# Altium integrated library National Semiconductor ADC.IntLib: 538 symbols (part 3 of 19)
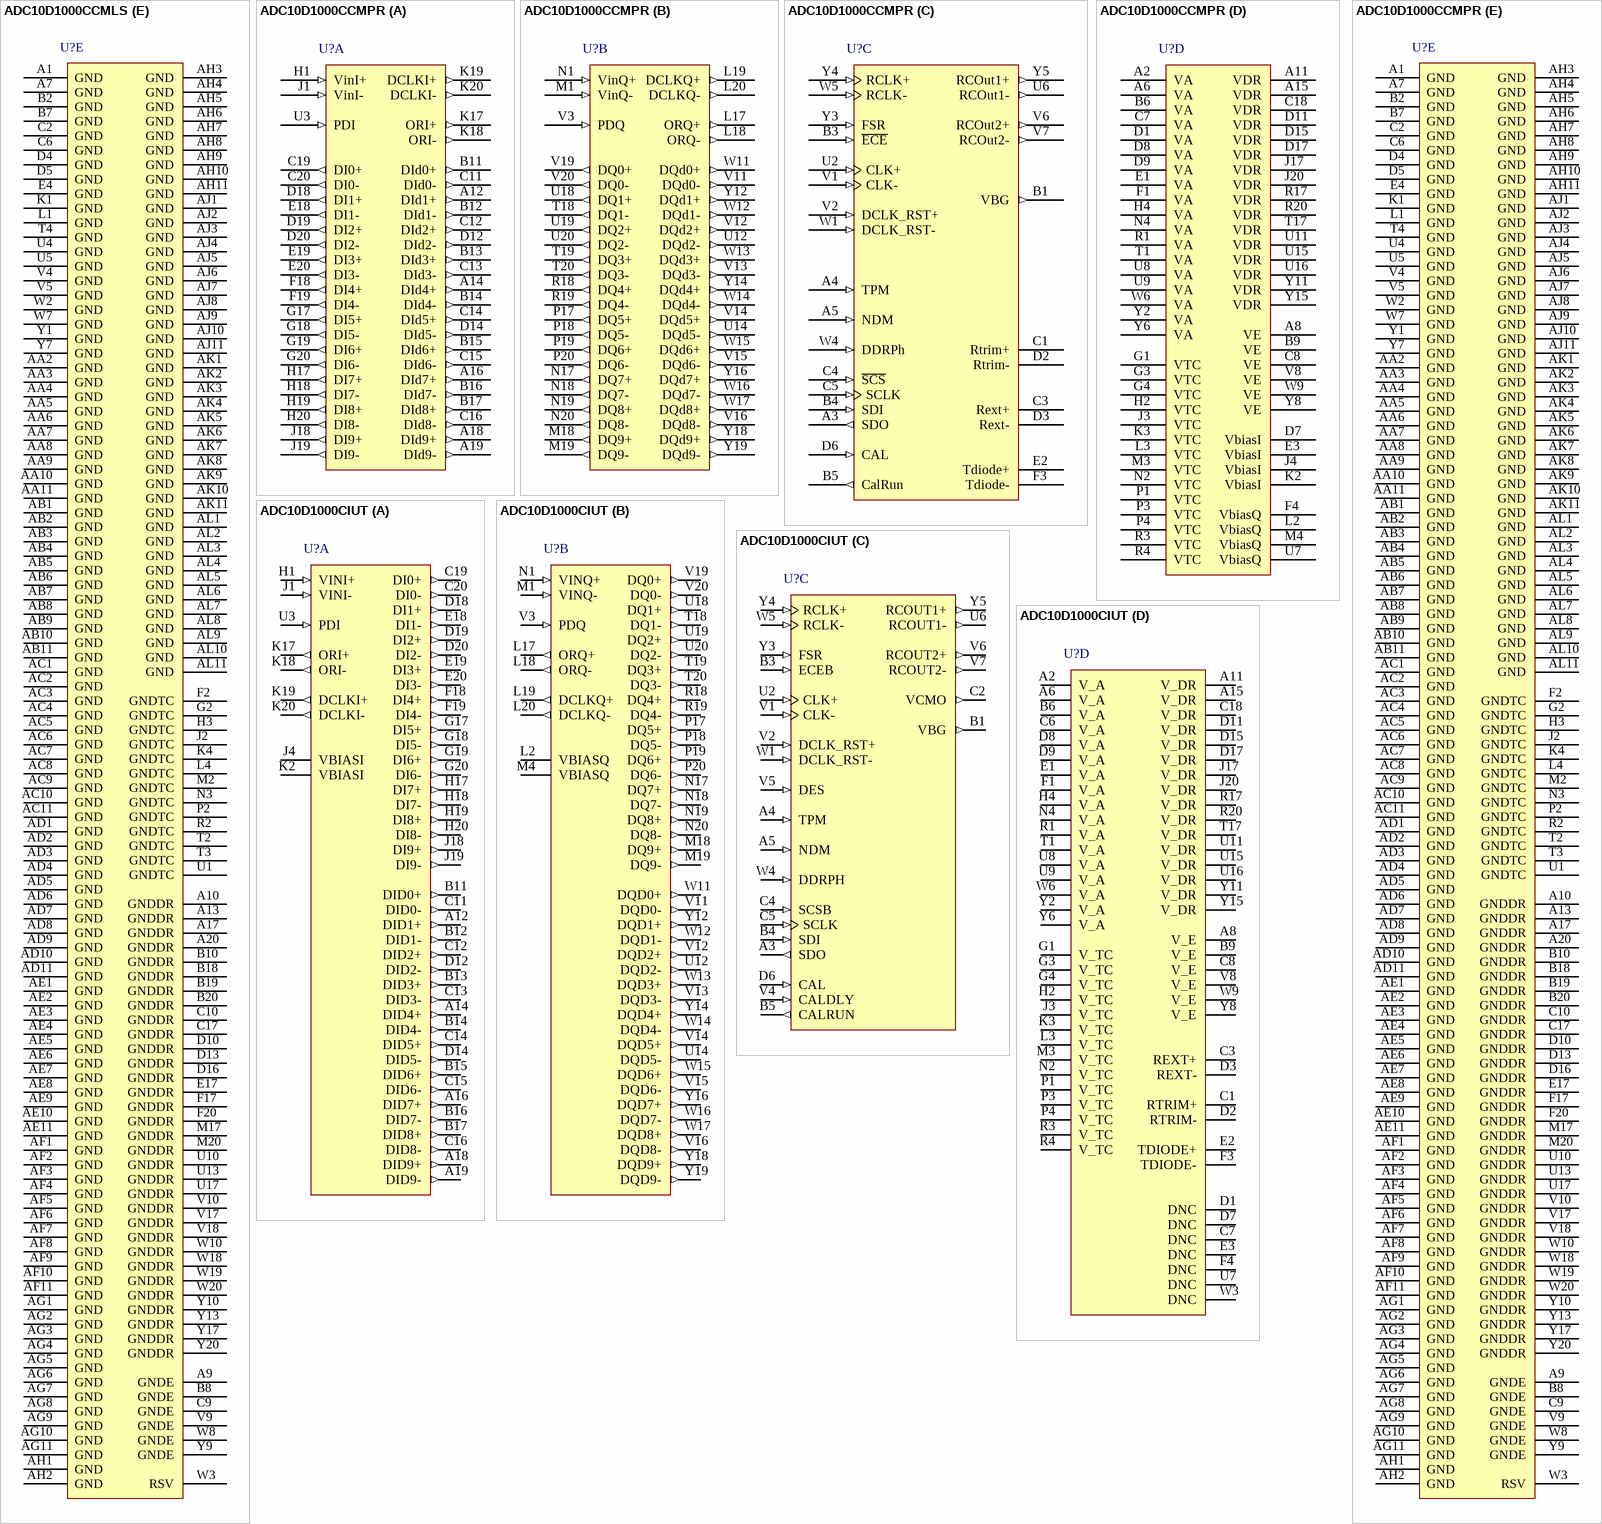
[diagram p47: symbols ADC10D1000CCMLS to ADC10D1000CIUT]

## ADC10D1000CCMPR
designator U?
Low Power, 10-Bit, Dual 1.0 GSPS or Single 2.0 GSPS A/D Converter, 376 pin CCGA; PartNumber: ADC10D1000CCMPR; Manufacturer: National Semiconductor; PackageTopMarking: NSZSSXXYYA*ADC10D1000CC*MPR ES; PowerWise: N; CompType: ADC IC; High-Reliability: Y; DatasheetVersion: May-2010; PackageVersion: revD, Feb-2010; PackageReference: CCC376A; PackageDescription: CCGA, 27.94 x 27.94mm, 376 Lead, 1mm & 1.27mm Pitch; RoHS: N; PinCount: 376; ComponentLink1Description: ADC10D1000 Datasheet; ComponentLink1URL: http://www.national.com/ds/AD/ADC10D1000QML.pdf; ComponentLink2Description: ADC10D1000 Web Page; ComponentLink2URL: http://www.national.com/pf/AD/ADC10D1000.html; ComponentLink3Description: CCC376A Package Page; ComponentLink3URL: http://www.national.com/packaging/folders/ccc376a.html
footprint CCC376A (CGA, 376-Leads, Body 27.9x27.9mm, Pitch 1.27 & 1.0mm, NSC Recommended Pads)
part A pins: A12 DId1+ (out), A14 DId4+ (out), A16 DId7+ (out), A18 DId9+ (out), A19 DId9- (out), B11 DId0+ (out), B12 DId1- (out), B13 DId3+ (out), B14 DId4- (out), B15 DId6+ (out), B16 DId7- (out), B17 DId8+ (out), C11 DId0- (out), C12 DId2+ (out), C13 DId3- (out), C14 DId5+ (out), C15 DId6- (out), C16 DId8- (out), C19 DI0+ (out), C20 DI0- (out), D12 DId2- (out), D14 DId5- (out), D18 DI1+ (out), D19 DI2+ (out), D20 DI2- (out), E18 DI1- (out), E19 DI3+ (out), E20 DI3- (out), F18 DI4+ (out), F19 DI4- (out), G17 DI5+ (out), G18 DI5- (out), G19 DI6+ (out), G20 DI6- (out), H1 VinI+ (in), H17 DI7+ (out), H18 DI7- (out), H19 DI8+ (out), H20 DI8- (out), J1 VinI- (in), J18 DI9+ (out), J19 DI9- (out), K17 ORI+ (out), K18 ORI- (out), K19 DCLKI+ (out), K20 DCLKI- (out), U3 PDI (in)
part B pins: L17 ORQ+ (out), L18 ORQ- (out), L19 DCLKQ+ (out), L20 DCLKQ- (out), M1 VinQ- (in), M18 DQ9+ (out), M19 DQ9- (out), N1 VinQ+ (in), N17 DQ7+ (out), N18 DQ7- (out), N19 DQ8+ (out), N20 DQ8- (out), P17 DQ5+ (out), P18 DQ5- (out), P19 DQ6+ (out), P20 DQ6- (out), R18 DQ4+ (out), R19 DQ4- (out), T18 DQ1- (out), T19 DQ3+ (out), T20 DQ3- (out), U12 DQd2- (out), U14 DQd5- (out), U18 DQ1+ (out), U19 DQ2+ (out), U20 DQ2- (out), V3 PDQ (in), V11 DQd0- (out), V12 DQd2+ (out), V13 DQd3- (out), V14 DQd5+ (out), V15 DQd6- (out), V16 DQd8- (out), V19 DQ0+ (out), V20 DQ0- (out), W11 DQd0+ (out), W12 DQd1- (out), W13 DQd3+ (out), W14 DQd4- (out), W15 DQd6+ (out), W16 DQd7- (out), W17 DQd8+ (out), Y12 DQd1+ (out), Y14 DQd4+ (out), Y16 DQd7+ (out), Y18 DQd9+ (out), Y19 DQd9- (out)
part C pins: A3 SDO (out), A4 TPM (in), A5 NDM (in), B1 VBG (out), B3 ~{ECE} (in), B4 SDI (in), B5 CalRun (out), C1 Rtrim+, C3 Rext+, C4 ~{SCS} (in), C5 SCLK (in), D2 Rtrim-, D3 Rext-, D6 CAL (in), E2 Tdiode+, F3 Tdiode-, U2 CLK+ (in), U6 RCOut1- (out), V1 CLK- (in), V2 DCLK_RST+ (in), V6 RCOut2+ (out), V7 RCOut2- (out), W1 DCLK_RST- (in), W4 DDRPh (in), W5 RCLK- (in), Y3 FSR (in), Y4 RCLK+ (in), Y5 RCOut1+ (out)
part D pins: A2 VA (power), A6 VA (power), A8 VE (power), A11 VDR (power), A15 VDR (power), B6 VA (power), B9 VE (power), C7 VA (power), C8 VE (power), C18 VDR (power), D1 VA (power), D7 VbiasI, D8 VA (power), D9 VA (power), D11 VDR (power), D15 VDR (power), D17 VDR (power), E1 VA (power), E3 VbiasI, F1 VA (power), F4 VbiasQ, G1 VTC (power), G3 VTC (power), G4 VTC (power), H2 VTC (power), H4 VA (power), J3 VTC (power), J4 VbiasI, J17 VDR (power), J20 VDR (power), K2 VbiasI, K3 VTC (power), L2 VbiasQ, L3 VTC (power), M3 VTC (power), M4 VbiasQ, N2 VTC (power), N4 VA (power), P1 VTC (power), P3 VTC (power), P4 VTC (power), R1 VA (power), R3 VTC (power), R4 VTC (power), R17 VDR (power), R20 VDR (power), T1 VA (power), T17 VDR (power), U7 VbiasQ, U8 VA (power), U9 VA (power), U11 VDR (power), U15 VDR (power), U16 VDR (power), V8 VE (power), W6 VA (power), W9 VE (power), Y2 VA (power), Y6 VA (power), Y8 VE (power), Y11 VDR (power), Y15 VDR (power)
part E pins: A1 GND (power), A7 GND (power), A9 GNDE (power), A10 GNDDR (power), A13 GNDDR (power), A17 GNDDR (power), A20 GNDDR (power), AA2 GND (power), AA3 GND (power), AA4 GND (power), AA5 GND (power), AA6 GND (power), AA7 GND (power), AA8 GND (power), AA9 GND (power), AA10 GND (power), AA11 GND (power), AB1 GND (power), AB2 GND (power), AB3 GND (power), AB4 GND (power), AB5 GND (power), AB6 GND (power), AB7 GND (power), AB8 GND (power), AB9 GND (power), AB10 GND (power), AB11 GND (power), AC1 GND (power), AC2 GND (power), AC3 GND (power), AC4 GND (power), AC5 GND (power), AC6 GND (power), AC7 GND (power), AC8 GND (power), AC9 GND (power), AC10 GND (power), AC11 GND (power), AD1 GND (power), AD2 GND (power), AD3 GND (power), AD4 GND (power), AD5 GND (power), AD6 GND (power), AD7 GND (power), AD8 GND (power), AD9 GND (power), AD10 GND (power), AD11 GND (power), AE1 GND (power), AE2 GND (power), AE3 GND (power), AE4 GND (power), AE5 GND (power), AE6 GND (power), AE7 GND (power), AE8 GND (power), AE9 GND (power), AE10 GND (power), AE11 GND (power), AF1 GND (power), AF2 GND (power), AF3 GND (power), AF4 GND (power), AF5 GND (power), AF6 GND (power), AF7 GND (power), AF8 GND (power), AF9 GND (power), AF10 GND (power), AF11 GND (power), AG1 GND (power), AG2 GND (power), AG3 GND (power), AG4 GND (power), AG5 GND (power), AG6 GND (power), AG7 GND (power), AG8 GND (power), AG9 GND (power), AG10 GND (power), AG11 GND (power), AH1 GND (power), AH2 GND (power), AH3 GND (power), AH4 GND (power), AH5 GND (power), AH6 GND (power), AH7 GND (power), AH8 GND (power), AH9 GND (power), AH10 GND (power), AH11 GND (power), AJ1 GND (power), AJ2 GND (power), AJ3 GND (power), AJ4 GND (power), AJ5 GND (power), AJ6 GND (power), AJ7 GND (power), AJ8 GND (power), AJ9 GND (power), AJ10 GND (power), AJ11 GND (power), AK1 GND (power), AK2 GND (power), AK3 GND (power), AK4 GND (power), AK5 GND (power), AK6 GND (power), AK7 GND (power), AK8 GND (power), AK9 GND (power), AK10 GND (power), AK11 GND (power), AL1 GND (power), AL2 GND (power), AL3 GND (power), AL4 GND (power), AL5 GND (power), AL6 GND (power), AL7 GND (power), AL8 GND (power), AL9 GND (power), AL10 GND (power), AL11 GND (power), B2 GND (power), B7 GND (power), B8 GNDE (power), B10 GNDDR (power), B18 GNDDR (power), B19 GNDDR (power), B20 GNDDR (power), C2 GND (power), C6 GND (power), C9 GNDE (power), C10 GNDDR (power), C17 GNDDR (power), D4 GND (power), D5 GND (power), D10 GNDDR (power), D13 GNDDR (power), D16 GNDDR (power), E4 GND (power), E17 GNDDR (power), F2 GNDTC (power), F17 GNDDR (power), F20 GNDDR (power), G2 GNDTC (power), H3 GNDTC (power), J2 GNDTC (power), K1 GND (power), K4 GNDTC (power), L1 GND (power), L4 GNDTC (power), M2 GNDTC (power), M17 GNDDR (power), M20 GNDDR (power), N3 GNDTC (power), P2 GNDTC (power), R2 GNDTC (power), T2 GNDTC (power), T3 GNDTC (power), T4 GND (power), U1 GNDTC (power), U4 GND (power), U5 GND (power), U10 GNDDR (power), U13 GNDDR (power), U17 GNDDR (power), V4 GND (power), V5 GND (power), V9 GNDE (power), V10 GNDDR (power), V17 GNDDR (power), V18 GNDDR (power), W2 GND (power), W3 RSV, W7 GND (power), W8 GNDE (power), W10 GNDDR (power), W18 GNDDR (power), W19 GNDDR (power), W20 GNDDR (power), Y1 GND (power), Y7 GND (power), Y9 GNDE (power), Y10 GNDDR (power), Y13 GNDDR (power), Y17 GNDDR (power), Y20 GNDDR (power)

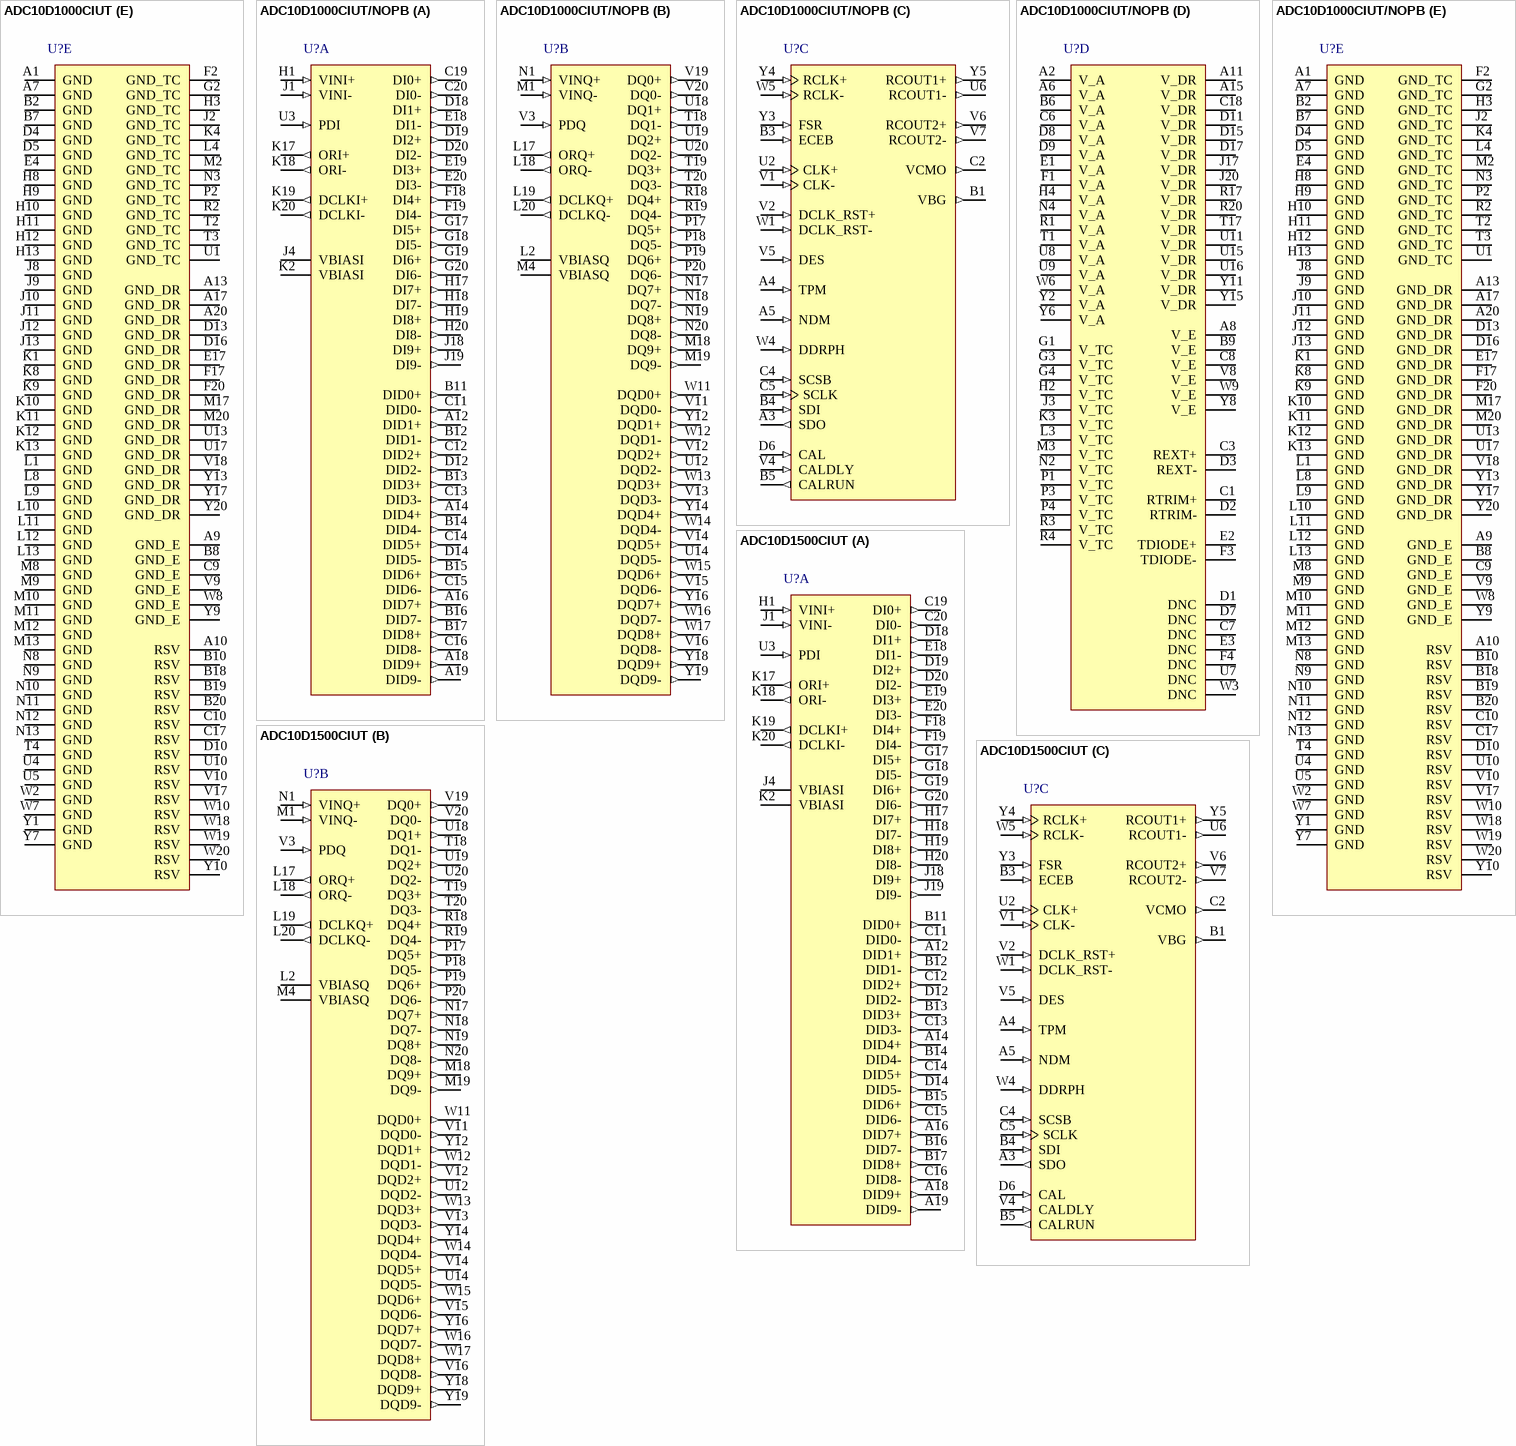
[diagram p9: symbols ADC10D1000CIUT to ADC10D1500CIUT]

## ADC10D1000CIUT
designator U?
Low Power, 10-Bit, Dual 1.0 GSPS or Single 2.0 GSPS A/D Converter, 292-pin TEPBGA; PartNumber: ADC10D1000CIUT; Manufacturer: National Semiconductor; PackageTopMarking: NSUZXYYTTE#*ADC10D1000*CIUT; PowerWise: Y; CompType: ADC IC; DatasheetVersion: Jan-2010; PackageVersion: revA, Jul-2001; PackageReference: UFH292A; PackageDescription: TE-PBGA, 27 x 27 x 2.38mm, 292 Ball, 1.27mm Pitch; RoHS: N; PinCount: 292; High-Reliability: Y; Code_JEDEC: MS-034-BAL-2; ComponentLink1Description: ADC10D1000 Datasheet; ComponentLink1URL: http://www.national.com/ds/AD/ADC10D1000.pdf; ComponentLink2Description: ADC10D1000 Web Page; ComponentLink2URL: http://www.national.com/pf/AD/ADC10D1000.html; ComponentLink3Description: UFH292A Package Page; ComponentLink3URL: http://www.national.com/packaging/folders/ufh292a.html
footprint UFH292A (BGA, 292-Leads, Body 27x27mm, Pitch 1.27mm)
part A pins: A12 DID1+ (out), A14 DID4+ (out), A16 DID7+ (out), A18 DID9+ (out), A19 DID9- (out), B11 DID0+ (out), B12 DID1- (out), B13 DID3+ (out), B14 DID4- (out), B15 DID6+ (out), B16 DID7- (out), B17 DID8+ (out), C11 DID0- (out), C12 DID2+ (out), C13 DID3- (out), C14 DID5+ (out), C15 DID6- (out), C16 DID8- (out), C19 DI0+ (out), C20 DI0- (out), D12 DID2- (out), D14 DID5- (out), D18 DI1+ (out), D19 DI2+ (out), D20 DI2- (out), E18 DI1- (out), E19 DI3+ (out), E20 DI3- (out), F18 DI4+ (out), F19 DI4- (out), G17 DI5+ (out), G18 DI5- (out), G19 DI6+ (out), G20 DI6- (out), H1 VINI+ (in), H17 DI7+ (out), H18 DI7- (out), H19 DI8+ (out), H20 DI8- (out), J1 VINI- (in), J4 VBIASI (power), J18 DI9+ (out), J19 DI9- (out), K2 VBIASI (power), K17 ORI+ (out), K18 ORI- (out), K19 DCLKI+ (out), K20 DCLKI- (out), U3 PDI (in)
part B pins: L2 VBIASQ (power), L17 ORQ+ (out), L18 ORQ- (out), L19 DCLKQ+ (out), L20 DCLKQ- (out), M1 VINQ- (in), M4 VBIASQ (power), M18 DQ9+ (out), M19 DQ9- (out), N1 VINQ+ (in), N17 DQ7+ (out), N18 DQ7- (out), N19 DQ8+ (out), N20 DQ8- (out), P17 DQ5+ (out), P18 DQ5- (out), P19 DQ6+ (out), P20 DQ6- (out), R18 DQ4+ (out), R19 DQ4- (out), T18 DQ1- (out), T19 DQ3+ (out), T20 DQ3- (out), U12 DQD2- (out), U14 DQD5- (out), U18 DQ1+ (out), U19 DQ2+ (out), U20 DQ2- (out), V3 PDQ (in), V11 DQD0- (out), V12 DQD2+ (out), V13 DQD3- (out), V14 DQD5+ (out), V15 DQD6- (out), V16 DQD8- (out), V19 DQ0+ (out), V20 DQ0- (out), W11 DQD0+ (out), W12 DQD1- (out), W13 DQD3+ (out), W14 DQD4- (out), W15 DQD6+ (out), W16 DQD7- (out), W17 DQD8+ (out), Y12 DQD1+ (out), Y14 DQD4+ (out), Y16 DQD7+ (out), Y18 DQD9+ (out), Y19 DQD9- (out)
part C pins: A3 SDO (out), A4 TPM (in), A5 NDM (in), B1 VBG (out), B3 ECEB (in), B4 SDI (in), B5 CALRUN (out), C2 VCMO (out), C4 SCSB (in), C5 SCLK (in), D6 CAL (in), U2 CLK+ (in), U6 RCOUT1- (out), V1 CLK- (in), V2 DCLK_RST+ (in), V4 CALDLY (in), V5 DES (in), V6 RCOUT2+ (out), V7 RCOUT2- (out), W1 DCLK_RST- (in), W4 DDRPH (in), W5 RCLK- (in), Y3 FSR (in), Y4 RCLK+ (in), Y5 RCOUT1+ (out)
part D pins: A2 V_A (power), A6 V_A (power), A8 V_E (power), A11 V_DR (power), A15 V_DR (power), B6 V_A (power), B9 V_E (power), C1 RTRIM+, C3 REXT+, C6 V_A (power), C7 DNC, C8 V_E (power), C18 V_DR (power), D1 DNC, D2 RTRIM-, D3 REXT-, D7 DNC, D8 V_A (power), D9 V_A (power), D11 V_DR (power), D15 V_DR (power), D17 V_DR (power), E1 V_A (power), E2 TDIODE+, E3 DNC, F1 V_A (power), F3 TDIODE-, F4 DNC, G1 V_TC (power), G3 V_TC (power), G4 V_TC (power), H2 V_TC (power), H4 V_A (power), J3 V_TC (power), J17 V_DR (power), J20 V_DR (power), K3 V_TC (power), L3 V_TC (power), M3 V_TC (power), N2 V_TC (power), N4 V_A (power), P1 V_TC (power), P3 V_TC (power), P4 V_TC (power), R1 V_A (power), R3 V_TC (power), R4 V_TC (power), R17 V_DR (power), R20 V_DR (power), T1 V_A (power), T17 V_DR (power), U7 DNC, U8 V_A (power), U9 V_A (power), U11 V_DR (power), U15 V_DR (power), U16 V_DR (power), V8 V_E (power), W3 DNC, W6 V_A (power), W9 V_E (power), Y2 V_A (power), Y6 V_A (power), Y8 V_E (power), Y11 V_DR (power), Y15 V_DR (power)
part E pins: A1 GND (power), A7 GND (power), A9 GND_E (power), A10 RSV, A13 GND_DR (power), A17 GND_DR (power), A20 GND_DR (power), B2 GND (power), B7 GND (power), B8 GND_E (power), B10 RSV, B18 RSV, B19 RSV, B20 RSV, C9 GND_E (power), C10 RSV, C17 RSV, D4 GND (power), D5 GND (power), D10 RSV, D13 GND_DR (power), D16 GND_DR (power), E4 GND (power), E17 GND_DR (power), F2 GND_TC (power), F17 GND_DR (power), F20 GND_DR (power), G2 GND_TC (power), H3 GND_TC (power), H8 GND (power), H9 GND (power), H10 GND (power), H11 GND (power), H12 GND (power), H13 GND (power), J2 GND_TC (power), J8 GND (power), J9 GND (power), J10 GND (power), J11 GND (power), J12 GND (power), J13 GND (power), K1 GND (power), K4 GND_TC (power), K8 GND (power), K9 GND (power), K10 GND (power), K11 GND (power), K12 GND (power), K13 GND (power), L1 GND (power), L4 GND_TC (power), L8 GND (power), L9 GND (power), L10 GND (power), L11 GND (power), L12 GND (power), L13 GND (power), M2 GND_TC (power), M8 GND (power), M9 GND (power), M10 GND (power), M11 GND (power), M12 GND (power), M13 GND (power), M17 GND_DR (power), M20 GND_DR (power), N3 GND_TC (power), N8 GND (power), N9 GND (power), N10 GND (power), N11 GND (power), N12 GND (power), N13 GND (power), P2 GND_TC (power), R2 GND_TC (power), T2 GND_TC (power), T3 GND_TC (power), T4 GND (power), U1 GND_TC (power), U4 GND (power), U5 GND (power), U10 RSV, U13 GND_DR (power), U17 GND_DR (power), V9 GND_E (power), V10 RSV, V17 RSV, V18 GND_DR (power), W2 GND (power), W7 GND (power), W8 GND_E (power), W10 RSV, W18 RSV, W19 RSV, W20 RSV, Y1 GND (power), Y7 GND (power), Y9 GND_E (power), Y10 RSV, Y13 GND_DR (power), Y17 GND_DR (power), Y20 GND_DR (power)

## ADC10D1000CIUT/NOPB
designator U?
Low Power, 10-Bit, Dual 1.0/1.5 GSPS or Single 2.0/3.0 GSPS A/D Converter, 292-pin TEPBGA, Pb-Free; PartNumber: ADC10D1000CIUT/NOPB; Manufacturer: National Semiconductor; PackageTopMarking: NSUZXYYTTE#*ADC10D1000*CIUT; PowerWise: Y; CompType: ADC IC; DatasheetVersion: Jan-2010; PackageVersion: revA, Jul-2001; PackageReference: UFH292A; PackageDescription: TE-PBGA, 27 x 27 x 2.38mm, 292 Ball, 1.27mm Pitch; RoHS: Y; PinCount: 292; High-Reliability: Y; Code_JEDEC: MS-034-BAL-2; ComponentLink1Description: ADC10D1000 Datasheet; ComponentLink1URL: http://www.national.com/ds/AD/ADC10D1000.pdf; ComponentLink2Description: ADC10D1000 Web Page; ComponentLink2URL: http://www.national.com/pf/AD/ADC10D1000.html; ComponentLink3Description: UFH292A Package Page; ComponentLink3URL: http://www.national.com/packaging/folders/ufh292a.html
footprint UFH292A (BGA, 292-Leads, Body 27x27mm, Pitch 1.27mm)
part A pins: A12 DID1+ (out), A14 DID4+ (out), A16 DID7+ (out), A18 DID9+ (out), A19 DID9- (out), B11 DID0+ (out), B12 DID1- (out), B13 DID3+ (out), B14 DID4- (out), B15 DID6+ (out), B16 DID7- (out), B17 DID8+ (out), C11 DID0- (out), C12 DID2+ (out), C13 DID3- (out), C14 DID5+ (out), C15 DID6- (out), C16 DID8- (out), C19 DI0+ (out), C20 DI0- (out), D12 DID2- (out), D14 DID5- (out), D18 DI1+ (out), D19 DI2+ (out), D20 DI2- (out), E18 DI1- (out), E19 DI3+ (out), E20 DI3- (out), F18 DI4+ (out), F19 DI4- (out), G17 DI5+ (out), G18 DI5- (out), G19 DI6+ (out), G20 DI6- (out), H1 VINI+ (in), H17 DI7+ (out), H18 DI7- (out), H19 DI8+ (out), H20 DI8- (out), J1 VINI- (in), J4 VBIASI (power), J18 DI9+ (out), J19 DI9- (out), K2 VBIASI (power), K17 ORI+ (out), K18 ORI- (out), K19 DCLKI+ (out), K20 DCLKI- (out), U3 PDI (in)
part B pins: L2 VBIASQ (power), L17 ORQ+ (out), L18 ORQ- (out), L19 DCLKQ+ (out), L20 DCLKQ- (out), M1 VINQ- (in), M4 VBIASQ (power), M18 DQ9+ (out), M19 DQ9- (out), N1 VINQ+ (in), N17 DQ7+ (out), N18 DQ7- (out), N19 DQ8+ (out), N20 DQ8- (out), P17 DQ5+ (out), P18 DQ5- (out), P19 DQ6+ (out), P20 DQ6- (out), R18 DQ4+ (out), R19 DQ4- (out), T18 DQ1- (out), T19 DQ3+ (out), T20 DQ3- (out), U12 DQD2- (out), U14 DQD5- (out), U18 DQ1+ (out), U19 DQ2+ (out), U20 DQ2- (out), V3 PDQ (in), V11 DQD0- (out), V12 DQD2+ (out), V13 DQD3- (out), V14 DQD5+ (out), V15 DQD6- (out), V16 DQD8- (out), V19 DQ0+ (out), V20 DQ0- (out), W11 DQD0+ (out), W12 DQD1- (out), W13 DQD3+ (out), W14 DQD4- (out), W15 DQD6+ (out), W16 DQD7- (out), W17 DQD8+ (out), Y12 DQD1+ (out), Y14 DQD4+ (out), Y16 DQD7+ (out), Y18 DQD9+ (out), Y19 DQD9- (out)
part C pins: A3 SDO (out), A4 TPM (in), A5 NDM (in), B1 VBG (out), B3 ECEB (in), B4 SDI (in), B5 CALRUN (out), C2 VCMO (out), C4 SCSB (in), C5 SCLK (in), D6 CAL (in), U2 CLK+ (in), U6 RCOUT1- (out), V1 CLK- (in), V2 DCLK_RST+ (in), V4 CALDLY (in), V5 DES (in), V6 RCOUT2+ (out), V7 RCOUT2- (out), W1 DCLK_RST- (in), W4 DDRPH (in), W5 RCLK- (in), Y3 FSR (in), Y4 RCLK+ (in), Y5 RCOUT1+ (out)
part D pins: A2 V_A (power), A6 V_A (power), A8 V_E (power), A11 V_DR (power), A15 V_DR (power), B6 V_A (power), B9 V_E (power), C1 RTRIM+, C3 REXT+, C6 V_A (power), C7 DNC, C8 V_E (power), C18 V_DR (power), D1 DNC, D2 RTRIM-, D3 REXT-, D7 DNC, D8 V_A (power), D9 V_A (power), D11 V_DR (power), D15 V_DR (power), D17 V_DR (power), E1 V_A (power), E2 TDIODE+, E3 DNC, F1 V_A (power), F3 TDIODE-, F4 DNC, G1 V_TC (power), G3 V_TC (power), G4 V_TC (power), H2 V_TC (power), H4 V_A (power), J3 V_TC (power), J17 V_DR (power), J20 V_DR (power), K3 V_TC (power), L3 V_TC (power), M3 V_TC (power), N2 V_TC (power), N4 V_A (power), P1 V_TC (power), P3 V_TC (power), P4 V_TC (power), R1 V_A (power), R3 V_TC (power), R4 V_TC (power), R17 V_DR (power), R20 V_DR (power), T1 V_A (power), T17 V_DR (power), U7 DNC, U8 V_A (power), U9 V_A (power), U11 V_DR (power), U15 V_DR (power), U16 V_DR (power), V8 V_E (power), W3 DNC, W6 V_A (power), W9 V_E (power), Y2 V_A (power), Y6 V_A (power), Y8 V_E (power), Y11 V_DR (power), Y15 V_DR (power)
part E pins: A1 GND (power), A7 GND (power), A9 GND_E (power), A10 RSV, A13 GND_DR (power), A17 GND_DR (power), A20 GND_DR (power), B2 GND (power), B7 GND (power), B8 GND_E (power), B10 RSV, B18 RSV, B19 RSV, B20 RSV, C9 GND_E (power), C10 RSV, C17 RSV, D4 GND (power), D5 GND (power), D10 RSV, D13 GND_DR (power), D16 GND_DR (power), E4 GND (power), E17 GND_DR (power), F2 GND_TC (power), F17 GND_DR (power), F20 GND_DR (power), G2 GND_TC (power), H3 GND_TC (power), H8 GND (power), H9 GND (power), H10 GND (power), H11 GND (power), H12 GND (power), H13 GND (power), J2 GND_TC (power), J8 GND (power), J9 GND (power), J10 GND (power), J11 GND (power), J12 GND (power), J13 GND (power), K1 GND (power), K4 GND_TC (power), K8 GND (power), K9 GND (power), K10 GND (power), K11 GND (power), K12 GND (power), K13 GND (power), L1 GND (power), L4 GND_TC (power), L8 GND (power), L9 GND (power), L10 GND (power), L11 GND (power), L12 GND (power), L13 GND (power), M2 GND_TC (power), M8 GND (power), M9 GND (power), M10 GND (power), M11 GND (power), M12 GND (power), M13 GND (power), M17 GND_DR (power), M20 GND_DR (power), N3 GND_TC (power), N8 GND (power), N9 GND (power), N10 GND (power), N11 GND (power), N12 GND (power), N13 GND (power), P2 GND_TC (power), R2 GND_TC (power), T2 GND_TC (power), T3 GND_TC (power), T4 GND (power), U1 GND_TC (power), U4 GND (power), U5 GND (power), U10 RSV, U13 GND_DR (power), U17 GND_DR (power), V9 GND_E (power), V10 RSV, V17 RSV, V18 GND_DR (power), W2 GND (power), W7 GND (power), W8 GND_E (power), W10 RSV, W18 RSV, W19 RSV, W20 RSV, Y1 GND (power), Y7 GND (power), Y9 GND_E (power), Y10 RSV, Y13 GND_DR (power), Y17 GND_DR (power), Y20 GND_DR (power)

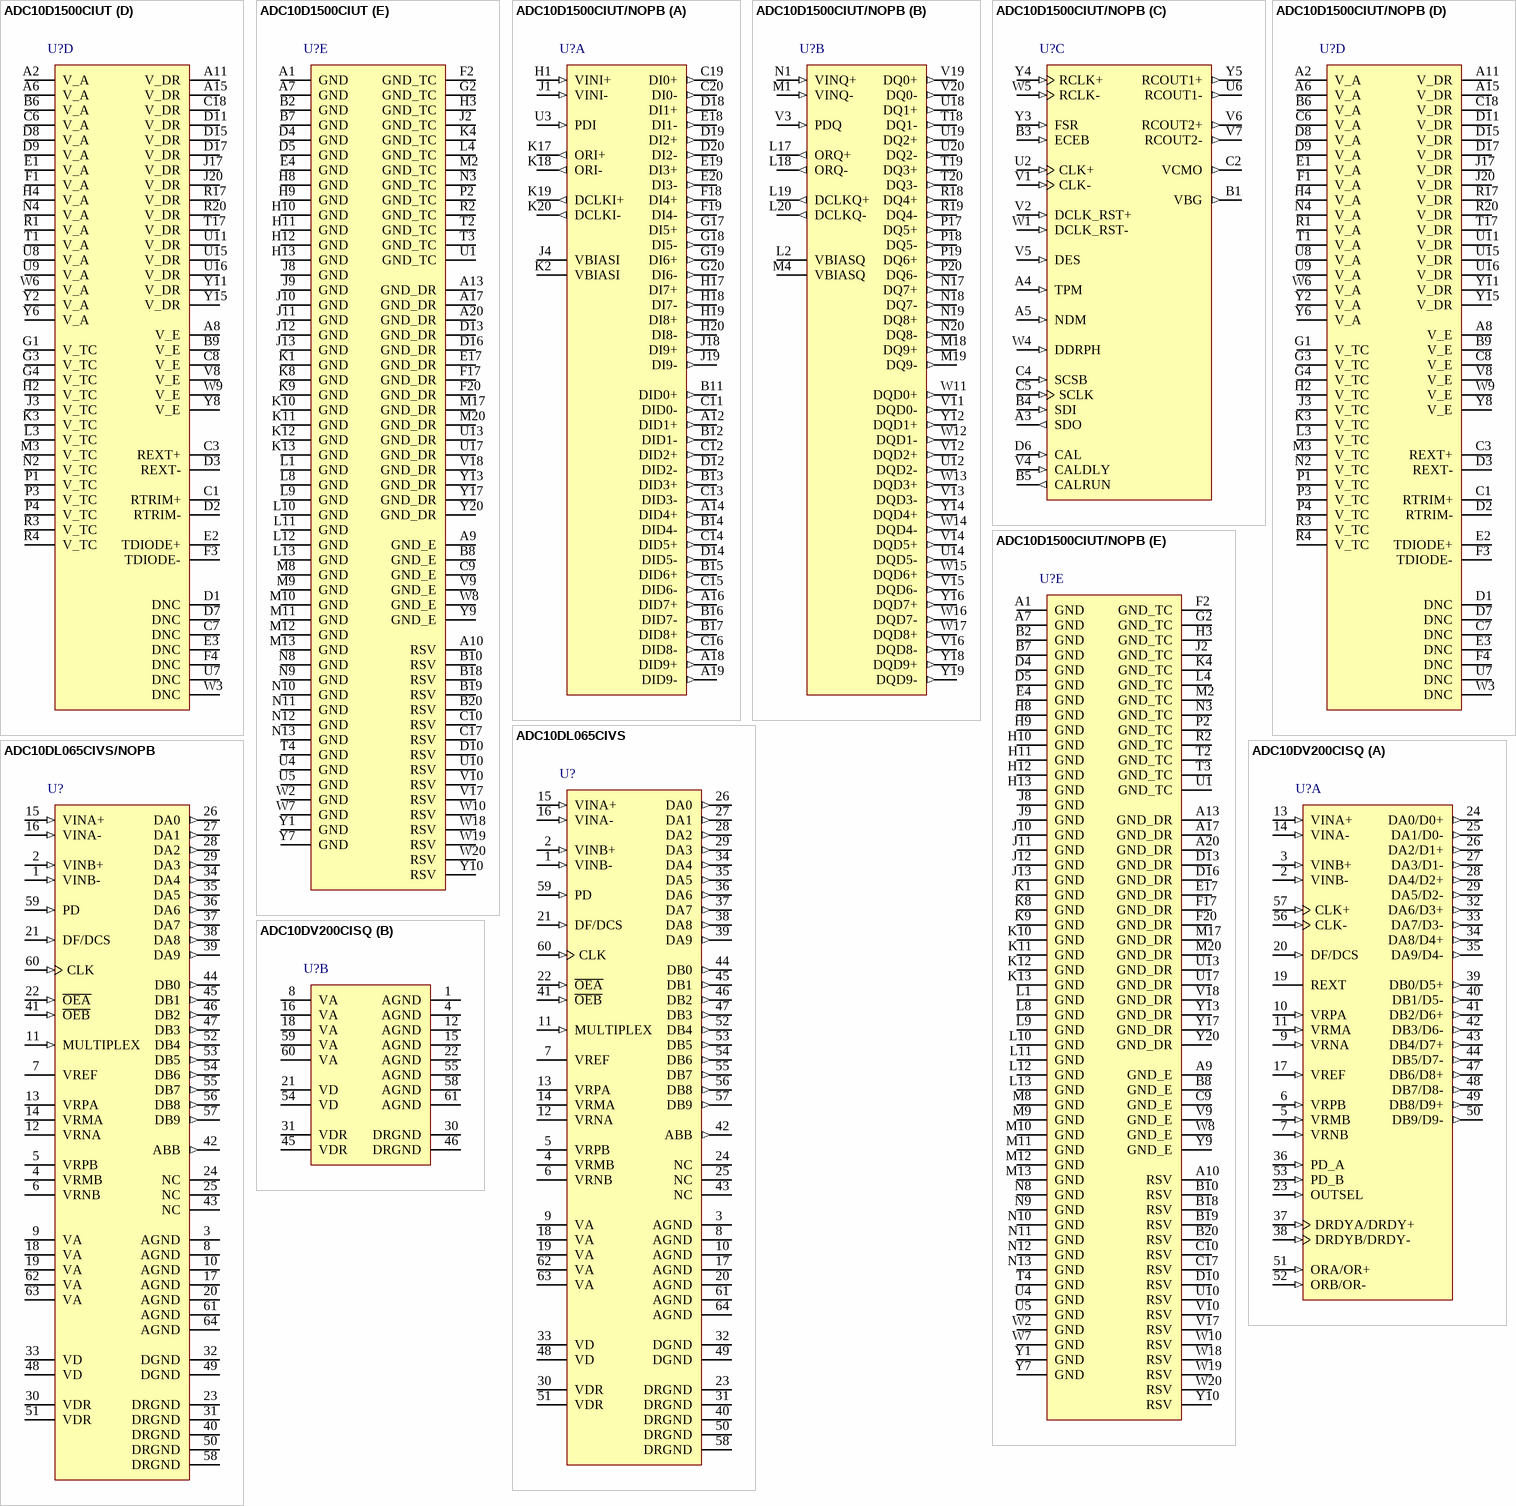
[diagram p10: symbols ADC10D1500CIUT to ADC10DV200CISQ]

## ADC10D1500CIUT
designator U?
Low Power, 10-Bit, Dual 1.0/1.5 GSPS or Single 2.0/3.0 GSPS ADC, 292-pin TEPBGA; PartNumber: ADC10D1500CIUT; Manufacturer: National Semiconductor; PackageTopMarking: NSUZXYYTTE#*ADC10D1500*CIUT; PowerWise: Y; CompType: ADC IC; DatasheetVersion: Jan-2010; PackageVersion: revA, Jul-2001; PackageReference: UFH292A; PackageDescription: TE-PBGA, 27 x 27 x 2.38mm, 292 Ball, 1.27mm Pitch; RoHS: N; PinCount: 292; High-Reliability: Y; Code_JEDEC: MS-034-BAL-2; ComponentLink1Description: ADC10D1500 Datasheet; ComponentLink1URL: http://www.national.com/ds/AD/ADC10D1500.pdf; ComponentLink2Description: ADC10D1500 Web Page; ComponentLink2URL: http://www.national.com/pf/AD/ADC10D1500.html; ComponentLink3Description: UFH292A Package Page; ComponentLink3URL: http://www.national.com/packaging/folders/ufh292a.html
footprint UFH292A (BGA, 292-Leads, Body 27x27mm, Pitch 1.27mm)
part A pins: A12 DID1+ (out), A14 DID4+ (out), A16 DID7+ (out), A18 DID9+ (out), A19 DID9- (out), B11 DID0+ (out), B12 DID1- (out), B13 DID3+ (out), B14 DID4- (out), B15 DID6+ (out), B16 DID7- (out), B17 DID8+ (out), C11 DID0- (out), C12 DID2+ (out), C13 DID3- (out), C14 DID5+ (out), C15 DID6- (out), C16 DID8- (out), C19 DI0+ (out), C20 DI0- (out), D12 DID2- (out), D14 DID5- (out), D18 DI1+ (out), D19 DI2+ (out), D20 DI2- (out), E18 DI1- (out), E19 DI3+ (out), E20 DI3- (out), F18 DI4+ (out), F19 DI4- (out), G17 DI5+ (out), G18 DI5- (out), G19 DI6+ (out), G20 DI6- (out), H1 VINI+ (in), H17 DI7+ (out), H18 DI7- (out), H19 DI8+ (out), H20 DI8- (out), J1 VINI- (in), J4 VBIASI (power), J18 DI9+ (out), J19 DI9- (out), K2 VBIASI (power), K17 ORI+ (out), K18 ORI- (out), K19 DCLKI+ (out), K20 DCLKI- (out), U3 PDI (in)
part B pins: L2 VBIASQ (power), L17 ORQ+ (out), L18 ORQ- (out), L19 DCLKQ+ (out), L20 DCLKQ- (out), M1 VINQ- (in), M4 VBIASQ (power), M18 DQ9+ (out), M19 DQ9- (out), N1 VINQ+ (in), N17 DQ7+ (out), N18 DQ7- (out), N19 DQ8+ (out), N20 DQ8- (out), P17 DQ5+ (out), P18 DQ5- (out), P19 DQ6+ (out), P20 DQ6- (out), R18 DQ4+ (out), R19 DQ4- (out), T18 DQ1- (out), T19 DQ3+ (out), T20 DQ3- (out), U12 DQD2- (out), U14 DQD5- (out), U18 DQ1+ (out), U19 DQ2+ (out), U20 DQ2- (out), V3 PDQ (in), V11 DQD0- (out), V12 DQD2+ (out), V13 DQD3- (out), V14 DQD5+ (out), V15 DQD6- (out), V16 DQD8- (out), V19 DQ0+ (out), V20 DQ0- (out), W11 DQD0+ (out), W12 DQD1- (out), W13 DQD3+ (out), W14 DQD4- (out), W15 DQD6+ (out), W16 DQD7- (out), W17 DQD8+ (out), Y12 DQD1+ (out), Y14 DQD4+ (out), Y16 DQD7+ (out), Y18 DQD9+ (out), Y19 DQD9- (out)
part C pins: A3 SDO (out), A4 TPM (in), A5 NDM (in), B1 VBG (out), B3 ECEB (in), B4 SDI (in), B5 CALRUN (out), C2 VCMO (out), C4 SCSB (in), C5 SCLK (in), D6 CAL (in), U2 CLK+ (in), U6 RCOUT1- (out), V1 CLK- (in), V2 DCLK_RST+ (in), V4 CALDLY (in), V5 DES (in), V6 RCOUT2+ (out), V7 RCOUT2- (out), W1 DCLK_RST- (in), W4 DDRPH (in), W5 RCLK- (in), Y3 FSR (in), Y4 RCLK+ (in), Y5 RCOUT1+ (out)
part D pins: A2 V_A (power), A6 V_A (power), A8 V_E (power), A11 V_DR (power), A15 V_DR (power), B6 V_A (power), B9 V_E (power), C1 RTRIM+, C3 REXT+, C6 V_A (power), C7 DNC, C8 V_E (power), C18 V_DR (power), D1 DNC, D2 RTRIM-, D3 REXT-, D7 DNC, D8 V_A (power), D9 V_A (power), D11 V_DR (power), D15 V_DR (power), D17 V_DR (power), E1 V_A (power), E2 TDIODE+, E3 DNC, F1 V_A (power), F3 TDIODE-, F4 DNC, G1 V_TC (power), G3 V_TC (power), G4 V_TC (power), H2 V_TC (power), H4 V_A (power), J3 V_TC (power), J17 V_DR (power), J20 V_DR (power), K3 V_TC (power), L3 V_TC (power), M3 V_TC (power), N2 V_TC (power), N4 V_A (power), P1 V_TC (power), P3 V_TC (power), P4 V_TC (power), R1 V_A (power), R3 V_TC (power), R4 V_TC (power), R17 V_DR (power), R20 V_DR (power), T1 V_A (power), T17 V_DR (power), U7 DNC, U8 V_A (power), U9 V_A (power), U11 V_DR (power), U15 V_DR (power), U16 V_DR (power), V8 V_E (power), W3 DNC, W6 V_A (power), W9 V_E (power), Y2 V_A (power), Y6 V_A (power), Y8 V_E (power), Y11 V_DR (power), Y15 V_DR (power)
part E pins: A1 GND (power), A7 GND (power), A9 GND_E (power), A10 RSV, A13 GND_DR (power), A17 GND_DR (power), A20 GND_DR (power), B2 GND (power), B7 GND (power), B8 GND_E (power), B10 RSV, B18 RSV, B19 RSV, B20 RSV, C9 GND_E (power), C10 RSV, C17 RSV, D4 GND (power), D5 GND (power), D10 RSV, D13 GND_DR (power), D16 GND_DR (power), E4 GND (power), E17 GND_DR (power), F2 GND_TC (power), F17 GND_DR (power), F20 GND_DR (power), G2 GND_TC (power), H3 GND_TC (power), H8 GND (power), H9 GND (power), H10 GND (power), H11 GND (power), H12 GND (power), H13 GND (power), J2 GND_TC (power), J8 GND (power), J9 GND (power), J10 GND (power), J11 GND (power), J12 GND (power), J13 GND (power), K1 GND (power), K4 GND_TC (power), K8 GND (power), K9 GND (power), K10 GND (power), K11 GND (power), K12 GND (power), K13 GND (power), L1 GND (power), L4 GND_TC (power), L8 GND (power), L9 GND (power), L10 GND (power), L11 GND (power), L12 GND (power), L13 GND (power), M2 GND_TC (power), M8 GND (power), M9 GND (power), M10 GND (power), M11 GND (power), M12 GND (power), M13 GND (power), M17 GND_DR (power), M20 GND_DR (power), N3 GND_TC (power), N8 GND (power), N9 GND (power), N10 GND (power), N11 GND (power), N12 GND (power), N13 GND (power), P2 GND_TC (power), R2 GND_TC (power), T2 GND_TC (power), T3 GND_TC (power), T4 GND (power), U1 GND_TC (power), U4 GND (power), U5 GND (power), U10 RSV, U13 GND_DR (power), U17 GND_DR (power), V9 GND_E (power), V10 RSV, V17 RSV, V18 GND_DR (power), W2 GND (power), W7 GND (power), W8 GND_E (power), W10 RSV, W18 RSV, W19 RSV, W20 RSV, Y1 GND (power), Y7 GND (power), Y9 GND_E (power), Y10 RSV, Y13 GND_DR (power), Y17 GND_DR (power), Y20 GND_DR (power)

## ADC10D1500CIUT/NOPB
designator U?
Low Power, 10-Bit, Dual 1.0/1.5 GSPS or Single 2.0/3.0 GSPS ADC, 292-pin TEPBGA, Pb-Free; PartNumber: ADC10D1500CIUT/NOPB; Manufacturer: National Semiconductor; PackageTopMarking: NSUZXYYTTE#*ADC10D1500*CIUT; PowerWise: Y; CompType: ADC IC; DatasheetVersion: Jan-2010; PackageVersion: revA, Jul-2001; PackageReference: UFH292A; PackageDescription: TE-PBGA, 27 x 27 x 2.38mm, 292 Ball, 1.27mm Pitch; RoHS: Y; PinCount: 292; High-Reliability: Y; Code_JEDEC: MS-034-BAL-2; ComponentLink1Description: ADC10D1500 Datasheet; ComponentLink1URL: http://www.national.com/ds/AD/ADC10D1500.pdf; ComponentLink2Description: ADC10D1500 Web Page; ComponentLink2URL: http://www.national.com/pf/AD/ADC10D1500.html; ComponentLink3Description: UFH292A Package Page; ComponentLink3URL: http://www.national.com/packaging/folders/ufh292a.html
footprint UFH292A (BGA, 292-Leads, Body 27x27mm, Pitch 1.27mm)
part A pins: A12 DID1+ (out), A14 DID4+ (out), A16 DID7+ (out), A18 DID9+ (out), A19 DID9- (out), B11 DID0+ (out), B12 DID1- (out), B13 DID3+ (out), B14 DID4- (out), B15 DID6+ (out), B16 DID7- (out), B17 DID8+ (out), C11 DID0- (out), C12 DID2+ (out), C13 DID3- (out), C14 DID5+ (out), C15 DID6- (out), C16 DID8- (out), C19 DI0+ (out), C20 DI0- (out), D12 DID2- (out), D14 DID5- (out), D18 DI1+ (out), D19 DI2+ (out), D20 DI2- (out), E18 DI1- (out), E19 DI3+ (out), E20 DI3- (out), F18 DI4+ (out), F19 DI4- (out), G17 DI5+ (out), G18 DI5- (out), G19 DI6+ (out), G20 DI6- (out), H1 VINI+ (in), H17 DI7+ (out), H18 DI7- (out), H19 DI8+ (out), H20 DI8- (out), J1 VINI- (in), J4 VBIASI (power), J18 DI9+ (out), J19 DI9- (out), K2 VBIASI (power), K17 ORI+ (out), K18 ORI- (out), K19 DCLKI+ (out), K20 DCLKI- (out), U3 PDI (in)
part B pins: L2 VBIASQ (power), L17 ORQ+ (out), L18 ORQ- (out), L19 DCLKQ+ (out), L20 DCLKQ- (out), M1 VINQ- (in), M4 VBIASQ (power), M18 DQ9+ (out), M19 DQ9- (out), N1 VINQ+ (in), N17 DQ7+ (out), N18 DQ7- (out), N19 DQ8+ (out), N20 DQ8- (out), P17 DQ5+ (out), P18 DQ5- (out), P19 DQ6+ (out), P20 DQ6- (out), R18 DQ4+ (out), R19 DQ4- (out), T18 DQ1- (out), T19 DQ3+ (out), T20 DQ3- (out), U12 DQD2- (out), U14 DQD5- (out), U18 DQ1+ (out), U19 DQ2+ (out), U20 DQ2- (out), V3 PDQ (in), V11 DQD0- (out), V12 DQD2+ (out), V13 DQD3- (out), V14 DQD5+ (out), V15 DQD6- (out), V16 DQD8- (out), V19 DQ0+ (out), V20 DQ0- (out), W11 DQD0+ (out), W12 DQD1- (out), W13 DQD3+ (out), W14 DQD4- (out), W15 DQD6+ (out), W16 DQD7- (out), W17 DQD8+ (out), Y12 DQD1+ (out), Y14 DQD4+ (out), Y16 DQD7+ (out), Y18 DQD9+ (out), Y19 DQD9- (out)
part C pins: A3 SDO (out), A4 TPM (in), A5 NDM (in), B1 VBG (out), B3 ECEB (in), B4 SDI (in), B5 CALRUN (out), C2 VCMO (out), C4 SCSB (in), C5 SCLK (in), D6 CAL (in), U2 CLK+ (in), U6 RCOUT1- (out), V1 CLK- (in), V2 DCLK_RST+ (in), V4 CALDLY (in), V5 DES (in), V6 RCOUT2+ (out), V7 RCOUT2- (out), W1 DCLK_RST- (in), W4 DDRPH (in), W5 RCLK- (in), Y3 FSR (in), Y4 RCLK+ (in), Y5 RCOUT1+ (out)
part D pins: A2 V_A (power), A6 V_A (power), A8 V_E (power), A11 V_DR (power), A15 V_DR (power), B6 V_A (power), B9 V_E (power), C1 RTRIM+, C3 REXT+, C6 V_A (power), C7 DNC, C8 V_E (power), C18 V_DR (power), D1 DNC, D2 RTRIM-, D3 REXT-, D7 DNC, D8 V_A (power), D9 V_A (power), D11 V_DR (power), D15 V_DR (power), D17 V_DR (power), E1 V_A (power), E2 TDIODE+, E3 DNC, F1 V_A (power), F3 TDIODE-, F4 DNC, G1 V_TC (power), G3 V_TC (power), G4 V_TC (power), H2 V_TC (power), H4 V_A (power), J3 V_TC (power), J17 V_DR (power), J20 V_DR (power), K3 V_TC (power), L3 V_TC (power), M3 V_TC (power), N2 V_TC (power), N4 V_A (power), P1 V_TC (power), P3 V_TC (power), P4 V_TC (power), R1 V_A (power), R3 V_TC (power), R4 V_TC (power), R17 V_DR (power), R20 V_DR (power), T1 V_A (power), T17 V_DR (power), U7 DNC, U8 V_A (power), U9 V_A (power), U11 V_DR (power), U15 V_DR (power), U16 V_DR (power), V8 V_E (power), W3 DNC, W6 V_A (power), W9 V_E (power), Y2 V_A (power), Y6 V_A (power), Y8 V_E (power), Y11 V_DR (power), Y15 V_DR (power)
part E pins: A1 GND (power), A7 GND (power), A9 GND_E (power), A10 RSV, A13 GND_DR (power), A17 GND_DR (power), A20 GND_DR (power), B2 GND (power), B7 GND (power), B8 GND_E (power), B10 RSV, B18 RSV, B19 RSV, B20 RSV, C9 GND_E (power), C10 RSV, C17 RSV, D4 GND (power), D5 GND (power), D10 RSV, D13 GND_DR (power), D16 GND_DR (power), E4 GND (power), E17 GND_DR (power), F2 GND_TC (power), F17 GND_DR (power), F20 GND_DR (power), G2 GND_TC (power), H3 GND_TC (power), H8 GND (power), H9 GND (power), H10 GND (power), H11 GND (power), H12 GND (power), H13 GND (power), J2 GND_TC (power), J8 GND (power), J9 GND (power), J10 GND (power), J11 GND (power), J12 GND (power), J13 GND (power), K1 GND (power), K4 GND_TC (power), K8 GND (power), K9 GND (power), K10 GND (power), K11 GND (power), K12 GND (power), K13 GND (power), L1 GND (power), L4 GND_TC (power), L8 GND (power), L9 GND (power), L10 GND (power), L11 GND (power), L12 GND (power), L13 GND (power), M2 GND_TC (power), M8 GND (power), M9 GND (power), M10 GND (power), M11 GND (power), M12 GND (power), M13 GND (power), M17 GND_DR (power), M20 GND_DR (power), N3 GND_TC (power), N8 GND (power), N9 GND (power), N10 GND (power), N11 GND (power), N12 GND (power), N13 GND (power), P2 GND_TC (power), R2 GND_TC (power), T2 GND_TC (power), T3 GND_TC (power), T4 GND (power), U1 GND_TC (power), U4 GND (power), U5 GND (power), U10 RSV, U13 GND_DR (power), U17 GND_DR (power), V9 GND_E (power), V10 RSV, V17 RSV, V18 GND_DR (power), W2 GND (power), W7 GND (power), W8 GND_E (power), W10 RSV, W18 RSV, W19 RSV, W20 RSV, Y1 GND (power), Y7 GND (power), Y9 GND_E (power), Y10 RSV, Y13 GND_DR (power), Y17 GND_DR (power), Y20 GND_DR (power)

## ADC10DL065CIVS
designator U?
Dual 10-Bit, 65 MSPS, 3.3V, 370mW A/D Converter, 64-pin TQFP; PartNumber: ADC10DL065CIVS; Manufacturer: National Semiconductor; PackageTopMarking: NSUZXYYTTE#*ADC10DL065*CIVS; PowerWise: N; CompType: ADC IC; High-Reliability: Y; DatasheetVersion: Jun-2006; PackageVersion: revB, Jul-2003; PackageReference: VEC64A; PackageDescription: TQFP, Jedec Metric, 10 x 10 x 1.0mm, 64 Lead, 0.5mm Pitch; RoHS: N; PinCount: 64; Code_JEDEC: MS-026-ACD; ComponentLink1Description: ADC10DL065 Datasheet; ComponentLink1URL: http://www.national.com/ds/AD/ADC10DL065.pdf; ComponentLink2Description: ADC10DL065 Web Page; ComponentLink2URL: http://www.national.com/pf/AD/ADC10DL065.html; ComponentLink3Description: VEC64A Package Page; ComponentLink3URL: http://www.national.com/packaging/folders/vec64a.html
footprint VEC64A_N (Thin QFP, 64-Leads, Body 10x10mm, Pitch 0.5mm, IPC Medium Density)
footprint VEC64A_L (Thin QFP, 64-Leads, Body 10x10mm, Pitch 0.5mm, IPC High Density)
footprint VEC64A_M (Thin QFP, 64-Leads, Body 10x10mm, Pitch 0.5mm, IPC Low Density)
pins: 1 VINB- (in), 2 VINB+ (in), 3 AGND (power), 4 VRMB, 5 VRPB, 6 VRNB, 7 VREF (power), 8 AGND (power), 9 VA (power), 10 AGND (power), 11 MULTIPLEX (in), 12 VRNA, 13 VRPA, 14 VRMA, 15 VINA+ (in), 16 VINA- (in), 17 AGND (power), 18 VA (power), 19 VA (power), 20 AGND (power), 21 DF/DCS (in), 22 ~{OEA} (in), 23 DRGND (power), 24 NC, 25 NC, 26 DA0 (out), 27 DA1 (out), 28 DA2 (out), 29 DA3 (out), 30 VDR (power), 31 DRGND (power), 32 DGND (power), 33 VD (power), 34 DA4 (out), 35 DA5 (out), 36 DA6 (out), 37 DA7 (out), 38 DA8 (out), 39 DA9 (out), 40 DRGND (power), 41 ~{OEB} (in), 42 ABB (out), 43 NC, 44 DB0 (out), 45 DB1 (out), 46 DB2 (out), 47 DB3 (out), 48 VD (power), 49 DGND (power), 50 DRGND (power), 51 VDR (power), 52 DB4 (out), 53 DB5 (out), 54 DB6 (out), 55 DB7 (out), 56 DB8 (out), 57 DB9 (out), 58 DRGND (power), 59 PD (in), 60 CLK (in), 61 AGND (power), 62 VA (power), 63 VA (power), 64 AGND (power)

## ADC10DL065CIVS/NOPB
designator U?
Dual 10-Bit, 65 MSPS, 3.3V, 370mW A/D Converter, 64-pin TQFP, Pb-Free; PartNumber: ADC10DL065CIVS/NOPB; Manufacturer: National Semiconductor; PackageTopMarking: NSUZXYYTTE#*ADC10DL065*CIVS; PowerWise: N; CompType: ADC IC; High-Reliability: Y; DatasheetVersion: Jun-2006; PackageVersion: revB, Jul-2003; PackageReference: VEC64A; PackageDescription: TQFP, Jedec Metric, 10 x 10 x 1.0mm, 64 Lead, 0.5mm Pitch; RoHS: Y; PinCount: 64; Code_JEDEC: MS-026-ACD; ComponentLink1Description: ADC10DL065 Datasheet; ComponentLink1URL: http://www.national.com/ds/AD/ADC10DL065.pdf; ComponentLink2Description: ADC10DL065 Web Page; ComponentLink2URL: http://www.national.com/pf/AD/ADC10DL065.html; ComponentLink3Description: VEC64A Package Page; ComponentLink3URL: http://www.national.com/packaging/folders/vec64a.html
footprint VEC64A_N (Thin QFP, 64-Leads, Body 10x10mm, Pitch 0.5mm, IPC Medium Density)
footprint VEC64A_L (Thin QFP, 64-Leads, Body 10x10mm, Pitch 0.5mm, IPC High Density)
footprint VEC64A_M (Thin QFP, 64-Leads, Body 10x10mm, Pitch 0.5mm, IPC Low Density)
pins: 1 VINB- (in), 2 VINB+ (in), 3 AGND (power), 4 VRMB, 5 VRPB, 6 VRNB, 7 VREF (power), 8 AGND (power), 9 VA (power), 10 AGND (power), 11 MULTIPLEX (in), 12 VRNA, 13 VRPA, 14 VRMA, 15 VINA+ (in), 16 VINA- (in), 17 AGND (power), 18 VA (power), 19 VA (power), 20 AGND (power), 21 DF/DCS (in), 22 ~{OEA} (in), 23 DRGND (power), 24 NC, 25 NC, 26 DA0 (out), 27 DA1 (out), 28 DA2 (out), 29 DA3 (out), 30 VDR (power), 31 DRGND (power), 32 DGND (power), 33 VD (power), 34 DA4 (out), 35 DA5 (out), 36 DA6 (out), 37 DA7 (out), 38 DA8 (out), 39 DA9 (out), 40 DRGND (power), 41 ~{OEB} (in), 42 ABB (out), 43 NC, 44 DB0 (out), 45 DB1 (out), 46 DB2 (out), 47 DB3 (out), 48 VD (power), 49 DGND (power), 50 DRGND (power), 51 VDR (power), 52 DB4 (out), 53 DB5 (out), 54 DB6 (out), 55 DB7 (out), 56 DB8 (out), 57 DB9 (out), 58 DRGND (power), 59 PD (in), 60 CLK (in), 61 AGND (power), 62 VA (power), 63 VA (power), 64 AGND (power)

## ADC10DV200CISQ
designator U?
Dual 10-bit, 200 MSPS Low-Power A/D Converter with Parallel LVDS/CMOS Outputs, 60 pin LLP; PartNumber: ADC10DV200CISQ; Manufacturer: National Semiconductor; PackageTopMarking: NS*UZXYTT*10DV200*CISQ; PowerWise: Y; CompType: ADC IC; DatasheetVersion: Feb-2009; PackageVersion: revA, Jun-2005; PackageReference: SQA60A; PackageDescription: LLP, Quad, 9 x 9 x 0.8mm, 60 Lead, 0.5mm Pitch, No Pullback; RoHS: Y; PinCount: 60; High-Reliability: Y; ComponentLink1Description: ADC10DV200 Datasheet; ComponentLink1URL: http://www.national.com/ds/AD/ADC10DV200.pdf; ComponentLink2Description: ADC10DV200 Web Page; ComponentLink2URL: http://www.national.com/pf/AD/ADC10DV200.html; ComponentLink3Description: SQA60A Package Page; ComponentLink3URL: http://www.national.com/packaging/folders/sqa60a.html
footprint SQA60A (QFN, 60-Leads, Body 9x9mm, Pitch 0.5mm, Thermal Pad 7.3x7.3mm, NSC Recommended)
part A pins: 2 VINB- (in), 3 VINB+ (in), 5 VRMB (in), 6 VRPB (in), 7 VRNB (in), 9 VRNA (in), 10 VRPA (in), 11 VRMA (in), 13 VINA+ (in), 14 VINA- (in), 17 VREF (in), 19 REXT, 20 DF/DCS (in), 23 OUTSEL (in), 24 DA0/D0+ (out), 25 DA1/D0- (out), 26 DA2/D1+ (out), 27 DA3/D1- (out), 28 DA4/D2+ (out), 29 DA5/D2- (out), 32 DA6/D3+ (out), 33 DA7/D3- (out), 34 DA8/D4+ (out), 35 DA9/D4- (out), 36 PD_A (in), 37 DRDYA/DRDY+ (in), 38 DRDYB/DRDY- (in), 39 DB0/D5+ (out), 40 DB1/D5- (out), 41 DB2/D6+ (out), 42 DB3/D6- (out), 43 DB4/D7+ (out), 44 DB5/D7- (out), 47 DB6/D8+ (out), 48 DB7/D8- (out), 49 DB8/D9+ (out), 50 DB9/D9- (out), 51 ORA/OR+ (in), 52 ORB/OR- (in), 53 PD_B (in), 56 CLK- (in), 57 CLK+ (in)
part B pins: 1 AGND (power), 4 AGND (power), 8 VA (power), 12 AGND (power), 15 AGND (power), 16 VA (power), 18 VA (power), 21 VD (power), 22 AGND (power), 30 DRGND (power), 31 VDR (power), 45 VDR (power), 46 DRGND (power), 54 VD (power), 55 AGND (power), 58 AGND (power), 59 VA (power), 60 VA (power), 61 AGND (power)

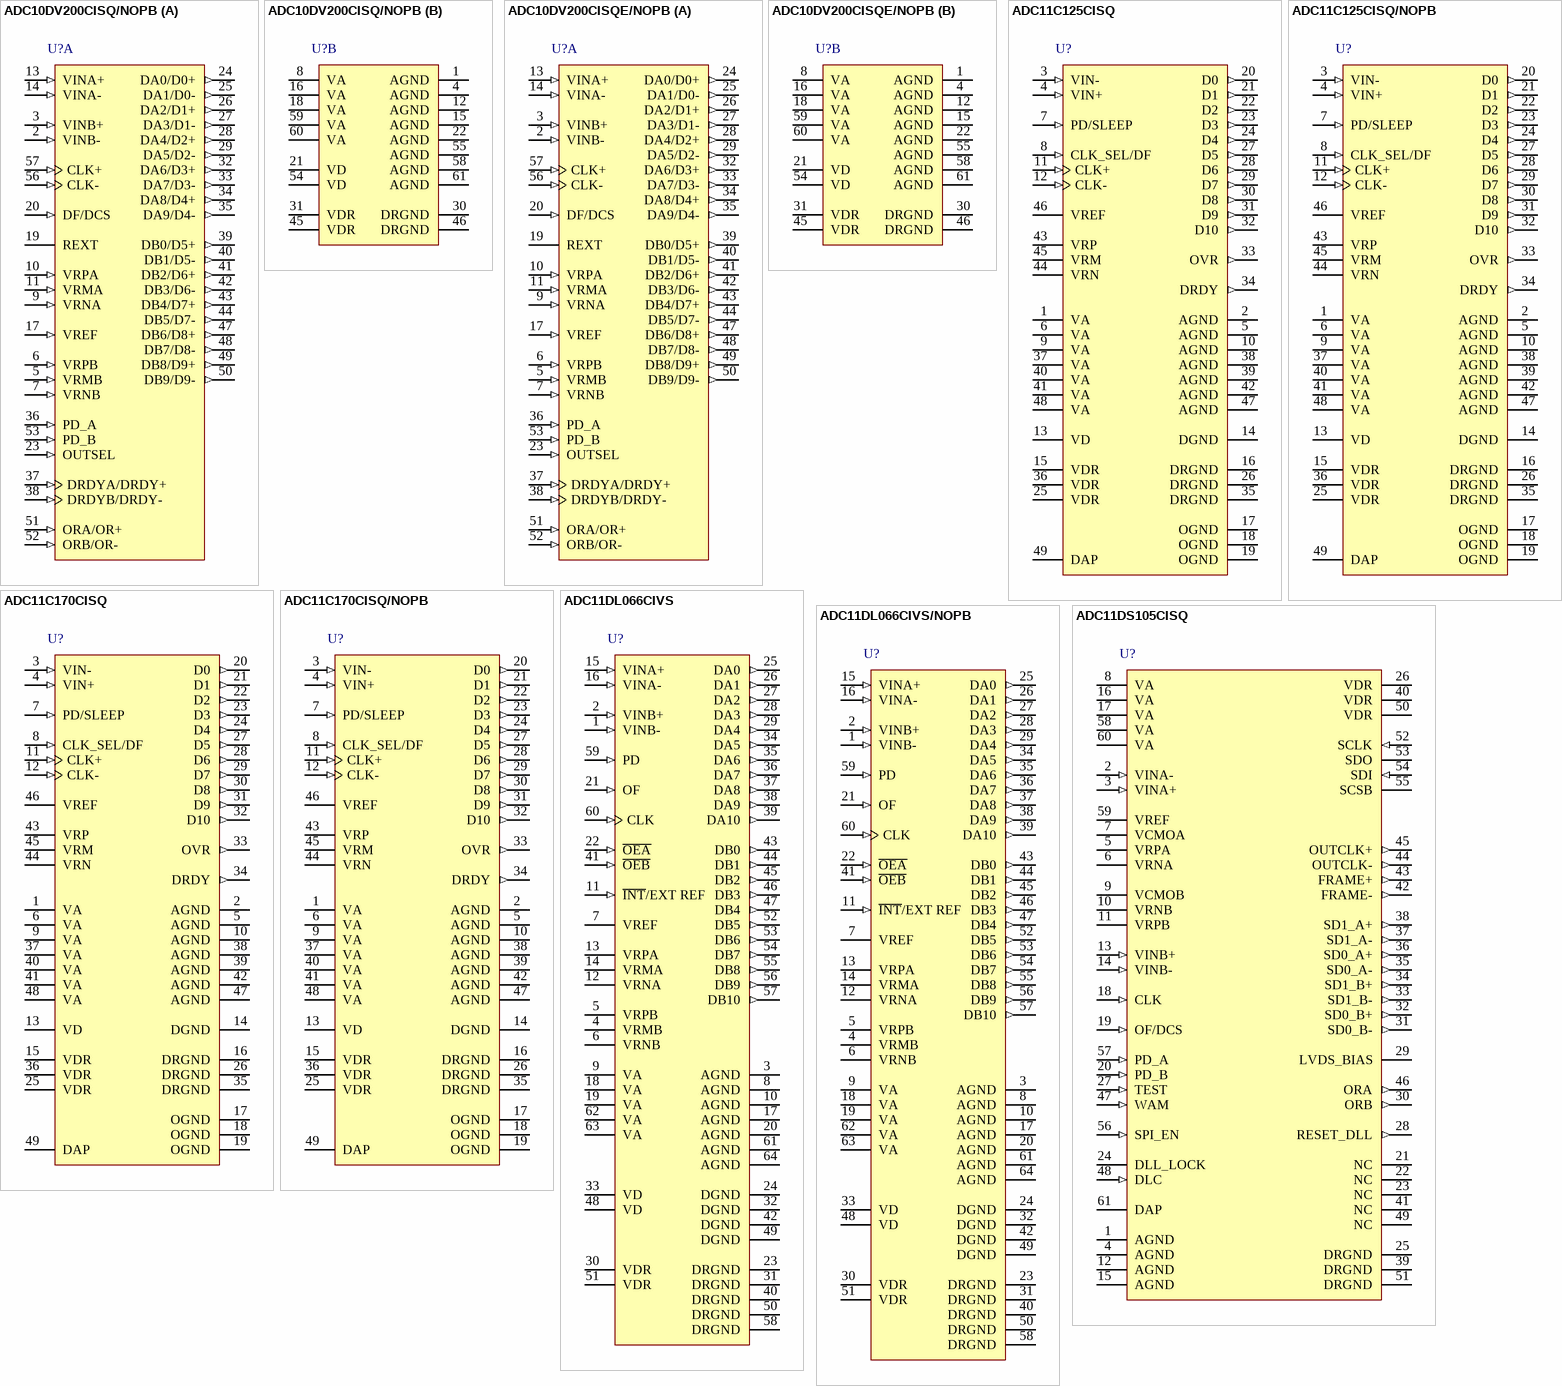
[diagram p11: symbols ADC10DV200CISQ/NOPB to ADC11DS105CISQ]

## ADC10DV200CISQ/NOPB
designator U?
Dual 10-bit, 200 MSPS Low-Power A/D Converter with Parallel LVDS/CMOS Outputs, 60-pin LLP, Pb-Free; PartNumber: ADC10DV200CISQ/NOPB; Manufacturer: National Semiconductor; PackageTopMarking: NS*UZXYTTE#*10DV200*CISQ; PowerWise: Y; CompType: ADC IC; DatasheetVersion: Feb-2009; PackageVersion: revA, Jun-2005; PackageReference: SQA60A; PackageDescription: LLP, Quad, 9 x 9 x 0.8mm, 60 Lead, 0.5mm Pitch, No Pullback; RoHS: Y; PinCount: 60; High-Reliability: Y; ComponentLink1Description: ADC10DV200 Datasheet; ComponentLink1URL: http://www.national.com/ds/AD/ADC10DV200.pdf; ComponentLink2Description: ADC10DV200 Web Page; ComponentLink2URL: http://www.national.com/pf/AD/ADC10DV200.html; ComponentLink3Description: SQA60A Package Page; ComponentLink3URL: http://www.national.com/packaging/folders/sqa60a.html
footprint SQA60A (QFN, 60-Leads, Body 9x9mm, Pitch 0.5mm, Thermal Pad 7.3x7.3mm, NSC Recommended)
part A pins: 2 VINB- (in), 3 VINB+ (in), 5 VRMB (in), 6 VRPB (in), 7 VRNB (in), 9 VRNA (in), 10 VRPA (in), 11 VRMA (in), 13 VINA+ (in), 14 VINA- (in), 17 VREF (in), 19 REXT, 20 DF/DCS (in), 23 OUTSEL (in), 24 DA0/D0+ (out), 25 DA1/D0- (out), 26 DA2/D1+ (out), 27 DA3/D1- (out), 28 DA4/D2+ (out), 29 DA5/D2- (out), 32 DA6/D3+ (out), 33 DA7/D3- (out), 34 DA8/D4+ (out), 35 DA9/D4- (out), 36 PD_A (in), 37 DRDYA/DRDY+ (in), 38 DRDYB/DRDY- (in), 39 DB0/D5+ (out), 40 DB1/D5- (out), 41 DB2/D6+ (out), 42 DB3/D6- (out), 43 DB4/D7+ (out), 44 DB5/D7- (out), 47 DB6/D8+ (out), 48 DB7/D8- (out), 49 DB8/D9+ (out), 50 DB9/D9- (out), 51 ORA/OR+ (in), 52 ORB/OR- (in), 53 PD_B (in), 56 CLK- (in), 57 CLK+ (in)
part B pins: 1 AGND (power), 4 AGND (power), 8 VA (power), 12 AGND (power), 15 AGND (power), 16 VA (power), 18 VA (power), 21 VD (power), 22 AGND (power), 30 DRGND (power), 31 VDR (power), 45 VDR (power), 46 DRGND (power), 54 VD (power), 55 AGND (power), 58 AGND (power), 59 VA (power), 60 VA (power), 61 AGND (power)

## ADC10DV200CISQE/NOPB
designator U?
Dual 10-bit, 200 MSPS Low-Power A/D Converter with Parallel LVDS/CMOS Outputs, 60-pin LLP, Pb-Free; PartNumber: ADC10DV200CISQE/NOPB; Manufacturer: National Semiconductor; PackageTopMarking: NS*UZXYTTE#*10DV200*CISQ; PowerWise: N; CompType: ADC IC; High-Reliability: Y; DatasheetVersion: Feb-2009; PackageVersion: revA, Jun-2005; PackageReference: SQA60A; PackageDescription: LLP, Quad, 9 x 9 x 0.8mm, 60 Lead, 0.5mm Pitch, No Pullback; RoHS: Y; PinCount: 60; ComponentLink1Description: ADC10DV200 Datasheet; ComponentLink1URL: http://www.national.com/ds/AD/ADC10DV200.pdf; ComponentLink2Description: ADC10DV200 Web Page; ComponentLink2URL: http://www.national.com/pf/AD/ADC10DV200.html; ComponentLink3Description: SQA60A Package Page; ComponentLink3URL: http://www.national.com/packaging/folders/sqa60a.html
footprint SQA60A (QFN, 60-Leads, Body 9x9mm, Pitch 0.5mm, Thermal Pad 7.3x7.3mm, NSC Recommended)
part A pins: 2 VINB- (in), 3 VINB+ (in), 5 VRMB (in), 6 VRPB (in), 7 VRNB (in), 9 VRNA (in), 10 VRPA (in), 11 VRMA (in), 13 VINA+ (in), 14 VINA- (in), 17 VREF (in), 19 REXT, 20 DF/DCS (in), 23 OUTSEL (in), 24 DA0/D0+ (out), 25 DA1/D0- (out), 26 DA2/D1+ (out), 27 DA3/D1- (out), 28 DA4/D2+ (out), 29 DA5/D2- (out), 32 DA6/D3+ (out), 33 DA7/D3- (out), 34 DA8/D4+ (out), 35 DA9/D4- (out), 36 PD_A (in), 37 DRDYA/DRDY+ (in), 38 DRDYB/DRDY- (in), 39 DB0/D5+ (out), 40 DB1/D5- (out), 41 DB2/D6+ (out), 42 DB3/D6- (out), 43 DB4/D7+ (out), 44 DB5/D7- (out), 47 DB6/D8+ (out), 48 DB7/D8- (out), 49 DB8/D9+ (out), 50 DB9/D9- (out), 51 ORA/OR+ (in), 52 ORB/OR- (in), 53 PD_B (in), 56 CLK- (in), 57 CLK+ (in)
part B pins: 1 AGND (power), 4 AGND (power), 8 VA (power), 12 AGND (power), 15 AGND (power), 16 VA (power), 18 VA (power), 21 VD (power), 22 AGND (power), 30 DRGND (power), 31 VDR (power), 45 VDR (power), 46 DRGND (power), 54 VD (power), 55 AGND (power), 58 AGND (power), 59 VA (power), 60 VA (power), 61 AGND (power)

## ADC11C125CISQ
designator U?
11-Bit, 125 MSPS, 1.1 GHz Bandwidth A/D Converter with CMOS outputs, 49-pin LLP; PartNumber: ADC11C125CISQ; Manufacturer: National Semiconductor; PackageTopMarking: NS*UZXYTTE#*ADC11C125; PowerWise: N; CompType: ADC IC; High-Reliability: Y; DatasheetVersion: Apr-2009; PackageVersion: revB, May-2009; PackageReference: SQA48A; PackageDescription: LLP, Plastic, Quad, 7 x 7 x 0.8mm Body, 48 Lead, 0.5mm Pitch, No Pullback; RoHS: N; PinCount: 48; Code_JEDEC: MO-220-WKKD-2; ComponentLink1Description: ADC11C125 Datasheet; ComponentLink1URL: http://www.national.com/ds/AD/ADC11C125.pdf; ComponentLink2Description: ADC11C125 Web Page; ComponentLink2URL: http://www.national.com/pf/AD/ADC11C125.html; ComponentLink3Description: SQA48A Package Page; ComponentLink3URL: http://www.national.com/packaging/folders/sqa48a.html
footprint SQA48A (QFN, 48-Leads, Body 7x7mm, Pitch 0.5mm, Thermal Pad 5.2x5.2mm, NSC Recommended)
pins: 1 VA (power), 2 AGND (power), 3 VIN- (in), 4 VIN+ (in), 5 AGND (power), 6 VA (power), 7 PD/SLEEP (in), 8 CLK_SEL/DF (in), 9 VA (power), 10 AGND (power), 11 CLK+ (in), 12 CLK- (in), 13 VD (power), 14 DGND (power), 15 VDR (power), 16 DRGND (power), 17 OGND (power), 18 OGND (power), 19 OGND (power), 20 D0 (out), 21 D1 (out), 22 D2 (out), 23 D3 (out), 24 D4 (out), 25 VDR (power), 26 DRGND (power), 27 D5 (out), 28 D6 (out), 29 D7 (out), 30 D8 (out), 31 D9 (out), 32 D10 (out), 33 OVR (out), 34 DRDY (out), 35 DRGND (power), 36 VDR (power), 37 VA (power), 38 AGND (power), 39 AGND (power), 40 VA (power), 41 VA (power), 42 AGND (power), 43 VRP, 44 VRN, 45 VRM, 46 VREF (power), 47 AGND (power), 48 VA (power), 49 DAP (power)

## ADC11C125CISQ/NOPB
designator U?
11-Bit, 125 MSPS, 1.1 GHz Bandwidth A/D Converter with CMOS Outputs, 48-pin LLP, Pb-Free; PartNumber: ADC11C125CISQ/NOPB; Manufacturer: National Semiconductor; PackageTopMarking: NS*UZXYTTE#*ADC11C125; PowerWise: N; CompType: ADC IC; High-Reliability: Y; DatasheetVersion: Apr-2009; PackageVersion: revB, May-2009; PackageReference: SQA48A; PackageDescription: LLP, Plastic, Quad, 7 x 7 x 0.8mm Body, 48 Lead, 0.5mm Pitch, No Pullback; RoHS: Y; PinCount: 48; Code_JEDEC: MO-220-WKKD-2; ComponentLink1Description: ADC11C125 Datasheet; ComponentLink1URL: http://www.national.com/ds/AD/ADC11C125.pdf; ComponentLink2Description: ADC11C125 Web Page; ComponentLink2URL: http://www.national.com/pf/AD/ADC11C125.html; ComponentLink3Description: SQA48A Package Page; ComponentLink3URL: http://www.national.com/packaging/folders/sqa48a.html
footprint SQA48A (QFN, 48-Leads, Body 7x7mm, Pitch 0.5mm, Thermal Pad 5.2x5.2mm, NSC Recommended)
pins: 1 VA (power), 2 AGND (power), 3 VIN- (in), 4 VIN+ (in), 5 AGND (power), 6 VA (power), 7 PD/SLEEP (in), 8 CLK_SEL/DF (in), 9 VA (power), 10 AGND (power), 11 CLK+ (in), 12 CLK- (in), 13 VD (power), 14 DGND (power), 15 VDR (power), 16 DRGND (power), 17 OGND (power), 18 OGND (power), 19 OGND (power), 20 D0 (out), 21 D1 (out), 22 D2 (out), 23 D3 (out), 24 D4 (out), 25 VDR (power), 26 DRGND (power), 27 D5 (out), 28 D6 (out), 29 D7 (out), 30 D8 (out), 31 D9 (out), 32 D10 (out), 33 OVR (out), 34 DRDY (out), 35 DRGND (power), 36 VDR (power), 37 VA (power), 38 AGND (power), 39 AGND (power), 40 VA (power), 41 VA (power), 42 AGND (power), 43 VRP, 44 VRN, 45 VRM, 46 VREF (power), 47 AGND (power), 48 VA (power), 49 DAP (power)

## ADC11C170CISQ
designator U?
11-Bit, 170 MSPS, 1.1 GHz Bandwidth A/D Converter with CMOS outputs, 49-pin LLP; PartNumber: ADC11C170CISQ; Manufacturer: National Semiconductor; PackageTopMarking: NS*UZXYTTE#*ADC11C170; PowerWise: N; CompType: ADC IC; High-Reliability: Y; DatasheetVersion: Apr-2009; PackageVersion: revB, May-2009; PackageReference: SQA48A; PackageDescription: LLP, Plastic, Quad, 7 x 7 x 0.8mm Body, 48 Lead, 0.5mm Pitch, No Pullback; RoHS: N; PinCount: 48; Code_JEDEC: MO-220-WKKD-2; ComponentLink1Description: ADC11C170 Datasheet; ComponentLink1URL: http://www.national.com/ds/AD/ADC11C170.pdf; ComponentLink2Description: ADC11C170 Web Page; ComponentLink2URL: http://www.national.com/pf/AD/ADC11C170.html; ComponentLink3Description: SQA48A Package Page; ComponentLink3URL: http://www.national.com/packaging/folders/sqa48a.html
footprint SQA48A (QFN, 48-Leads, Body 7x7mm, Pitch 0.5mm, Thermal Pad 5.2x5.2mm, NSC Recommended)
pins: 1 VA (power), 2 AGND (power), 3 VIN- (in), 4 VIN+ (in), 5 AGND (power), 6 VA (power), 7 PD/SLEEP (in), 8 CLK_SEL/DF (in), 9 VA (power), 10 AGND (power), 11 CLK+ (in), 12 CLK- (in), 13 VD (power), 14 DGND (power), 15 VDR (power), 16 DRGND (power), 17 OGND (power), 18 OGND (power), 19 OGND (power), 20 D0 (out), 21 D1 (out), 22 D2 (out), 23 D3 (out), 24 D4 (out), 25 VDR (power), 26 DRGND (power), 27 D5 (out), 28 D6 (out), 29 D7 (out), 30 D8 (out), 31 D9 (out), 32 D10 (out), 33 OVR (out), 34 DRDY (out), 35 DRGND (power), 36 VDR (power), 37 VA (power), 38 AGND (power), 39 AGND (power), 40 VA (power), 41 VA (power), 42 AGND (power), 43 VRP, 44 VRN, 45 VRM, 46 VREF (power), 47 AGND (power), 48 VA (power), 49 DAP (power)

## ADC11C170CISQ/NOPB
designator U?
11-Bit, 170 MSPS, 1.1 GHz Bandwidth A/D Converter with CMOS Outputs, 48-pin LLP, Pb-Free; PartNumber: ADC11C170CISQ/NOPB; Manufacturer: National Semiconductor; PackageTopMarking: NS*UZXYTTE#*ADC11C170; PowerWise: N; CompType: ADC IC; High-Reliability: Y; DatasheetVersion: Apr-2009; PackageVersion: revB, May-2009; PackageReference: SQA48A; PackageDescription: LLP, Plastic, Quad, 7 x 7 x 0.8mm Body, 48 Lead, 0.5mm Pitch, No Pullback; RoHS: Y; PinCount: 48; Code_JEDEC: MO-220-WKKD-2; ComponentLink1Description: ADC11C170 Datasheet; ComponentLink1URL: http://www.national.com/ds/AD/ADC11C170.pdf; ComponentLink2Description: ADC11C170 Web Page; ComponentLink2URL: http://www.national.com/pf/AD/ADC11C170.html; ComponentLink3Description: SQA48A Package Page; ComponentLink3URL: http://www.national.com/packaging/folders/sqa48a.html
footprint SQA48A (QFN, 48-Leads, Body 7x7mm, Pitch 0.5mm, Thermal Pad 5.2x5.2mm, NSC Recommended)
pins: 1 VA (power), 2 AGND (power), 3 VIN- (in), 4 VIN+ (in), 5 AGND (power), 6 VA (power), 7 PD/SLEEP (in), 8 CLK_SEL/DF (in), 9 VA (power), 10 AGND (power), 11 CLK+ (in), 12 CLK- (in), 13 VD (power), 14 DGND (power), 15 VDR (power), 16 DRGND (power), 17 OGND (power), 18 OGND (power), 19 OGND (power), 20 D0 (out), 21 D1 (out), 22 D2 (out), 23 D3 (out), 24 D4 (out), 25 VDR (power), 26 DRGND (power), 27 D5 (out), 28 D6 (out), 29 D7 (out), 30 D8 (out), 31 D9 (out), 32 D10 (out), 33 OVR (out), 34 DRDY (out), 35 DRGND (power), 36 VDR (power), 37 VA (power), 38 AGND (power), 39 AGND (power), 40 VA (power), 41 VA (power), 42 AGND (power), 43 VRP, 44 VRN, 45 VRM, 46 VREF (power), 47 AGND (power), 48 VA (power), 49 DAP (power)

## ADC11DL066CIVS
designator U?
Dual 11-Bit, 66 MSPS, 450 MHz Input Bandwidth A/D Converter w/Internal Reference, 64-pin TQFP; PartNumber: ADC11DL066CIVS; Manufacturer: National Semiconductor; PackageTopMarking: NSUZXYYTTE#*ADC11DL066*CIVS; PowerWise: N; CompType: ADC IC; High-Reliability: Y; DatasheetVersion: Mar-2004; PackageVersion: revB, Jul-2003; PackageReference: VEC64A; PackageDescription: TQFP, Jedec Metric, 10 x 10 x 1.0mm, 64 Lead, 0.5mm Pitch; RoHS: N; PinCount: 64; Code_JEDEC: MS-026-ACD; ComponentLink1Description: ADC11DL066 Datasheet; ComponentLink1URL: http://www.national.com/ds/AD/ADC11DL066.pdf; ComponentLink2Description: ADC11DL066 Web Page; ComponentLink2URL: http://www.national.com/pf/AD/ADC11DL066.html; ComponentLink3Description: VEC64A Package Page; ComponentLink3URL: http://www.national.com/packaging/folders/vec64a.html
footprint VEC64A_N (Thin QFP, 64-Leads, Body 10x10mm, Pitch 0.5mm, IPC Medium Density)
footprint VEC64A_L (Thin QFP, 64-Leads, Body 10x10mm, Pitch 0.5mm, IPC High Density)
footprint VEC64A_M (Thin QFP, 64-Leads, Body 10x10mm, Pitch 0.5mm, IPC Low Density)
pins: 1 VINB- (in), 2 VINB+ (in), 3 AGND (power), 4 VRMB, 5 VRPB, 6 VRNB, 7 VREF (power), 8 AGND (power), 9 VA (power), 10 AGND (power), 11 ~{INT}/EXT REF (in), 12 VRNA, 13 VRPA, 14 VRMA, 15 VINA+ (in), 16 VINA- (in), 17 AGND (power), 18 VA (power), 19 VA (power), 20 AGND (power), 21 OF (in), 22 ~{OEA} (in), 23 DRGND (power), 24 DGND (power), 25 DA0 (out), 26 DA1 (out), 27 DA2 (out), 28 DA3 (out), 29 DA4 (out), 30 VDR (power), 31 DRGND (power), 32 DGND (power), 33 VD (power), 34 DA5 (out), 35 DA6 (out), 36 DA7 (out), 37 DA8 (out), 38 DA9 (out), 39 DA10 (out), 40 DRGND (power), 41 ~{OEB} (in), 42 DGND (power), 43 DB0 (out), 44 DB1 (out), 45 DB2 (out), 46 DB3 (out), 47 DB4 (out), 48 VD (power), 49 DGND (power), 50 DRGND (power), 51 VDR (power), 52 DB5 (out), 53 DB6 (out), 54 DB7 (out), 55 DB8 (out), 56 DB9 (out), 57 DB10 (out), 58 DRGND (power), 59 PD (in), 60 CLK (in), 61 AGND (power), 62 VA (power), 63 VA (power), 64 AGND (power)